# EAGLE library part ESDALC6V1-5M6 (library ESDALC6V1-5M6)
STMicroelectronics ESDALC6V1-5M6 Quint Uni-Directional TVS Diode, 30W peak, 6-Pin uQFN Source: Datasheet <https://www.st.com/resource/en/datasheet/esdalc6v1-5m6.pdf>
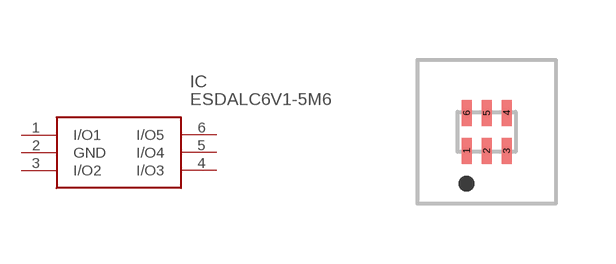
[diagram p0: symbol with the pads of ESDALC6V15M6; footprint ESDALC6V15M6]

Designator prefix IC

## ESDALC6V1-5M6 (Arrow_Part_Number: ESDALC6V1-5M6; Arrow_Price-Stock: https://www.arrow.com/en/products/esdalc6v1-5m6/stmicroelectronics?utm_currency=USD&region=nac; Description: STMicroelectronics ESDALC6V1-5M6 Quint Uni-Directional TVS Diode, 30W peak, 6-Pin uQFN; Height: 0.65mm; Manufacturer_Name: STMicroelectronics; Manufacturer_Part_Number: ESDALC6V1-5M6; Mouser_Part_Number: 511-ESDALC6V1-5M6; Mouser_Price-Stock: https://www.mouser.co.uk/ProductDetail/STMicroelectronics/ESDALC6V1-5M6?qs=riAxU6JNBCsF7CaldDOuJw%3D%3D)  [ESDALC6V15M6]
1  I/O1
2  GND
3  I/O2
4  I/O3
5  I/O4
6  I/O5

## Footprint ESDALC6V15M6 (pad centres in mm)
ESDALC6V1-5M6
smd 0.25 x 0.65: 1 -0.5,-0.475; 2 0,-0.475; 3 0.5,-0.475; 4 0.5,0.475; 5 0,0.475; 6 -0.5,0.475